# Altium footprint library PCB - DIODES - LED TH RED 5MM.PcbLib: 1 footprints
Each footprint in its own frame and in the unit in brackets; x right, y up, seen from the top. Pads: shape width x height; smd on the part's side, far side on the other; paste and mask are expansions set on the pad; w line width, h text height; cw(c..) or ccw(c..) is an arc to the next point about the centre after c.
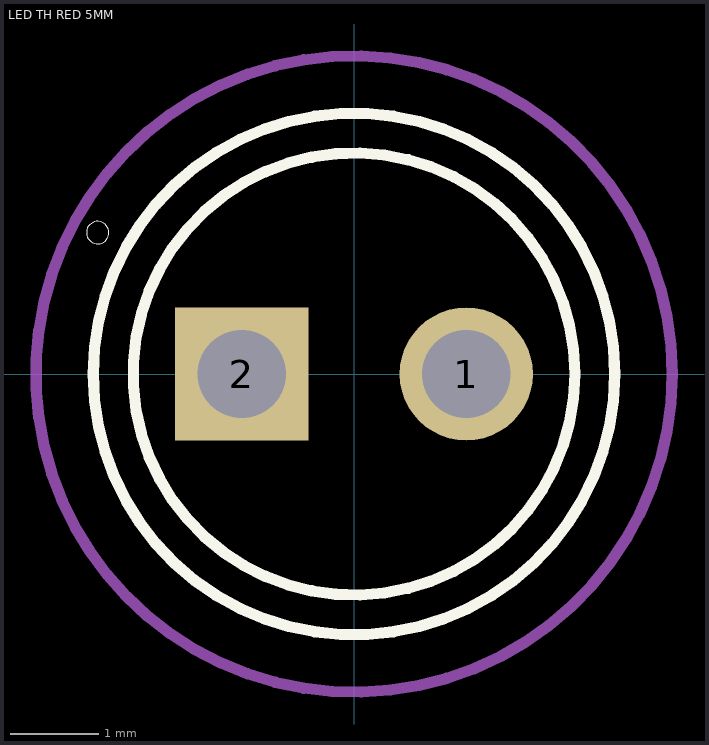
[diagram p0: the footprint, top view; thin cyan lines are the x and y axes]

## LED TH RED 5MM [mm]
pads (2):
  round 1.508 hole 1: 1(1.27,0)
  rect 1.508x1.508 hole 1: 2(-1.27,0)
Top Overlay:
  circle w0.127: c0,0 r2.95
  circle w0.127: c0,0 r2.5
  circle w0: c-2.9,1.6 r0.127
Mechanical 15:
  circle w0.127: c0,0 r3.6
3D body "HT RED 5MM.STEP": height 12.31, standoff -2.49, extent -2.372,-3.099 3.048,2.921